# Altium schematic symbol library 14D431K.SCHLIB: 1 symbol
Pins are listed as number, name and electrical type; pins without a type are passive.

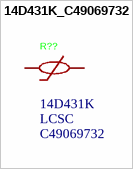
[diagram p0: symbol 14D431K_C49069732]

## 14D431K_C49069732
designator R??, comment Supplier Part: C49069732  Manufacturer Part: 14D431K  Supplier: LCSC  (hidden comment: 440pF)
Manufacturer: R+O(宏嘉诚); Symbol: 14D431K_C49069732; Add into BOM: yes; Varistor Voltage: 387V~473V; Clamping Voltage: 710V; Maximum DC Volts: 350V; Maximum AC Volts: 275V; Peak Current: 4.5kA; Energy: 136J; Rated Wattage: 600mW; Device: 14D431K_C49069732; LCSC Part Name: 710V 136J; Supplier Footprint: 插件,P=7.5mm; JLCPCB Part Class: Extended Part; Datasheet: https://item.szlcsc.com/datasheet/14D431K/51445298.html; Convert to PCB: yes; Value: 440pF
footprint RES-TH_L14.5-W6.0-P7.50-D0.8-S6.0
3D model RES-TH_L14.5-W6.0-H20.5-P7.50-D0.8-S6.0
pins: 1, 2